# Altium integrated library Analog Devices Data Converters Digital-to-Analog Converters.IntLib: 2231 symbols (part 176 of 181)
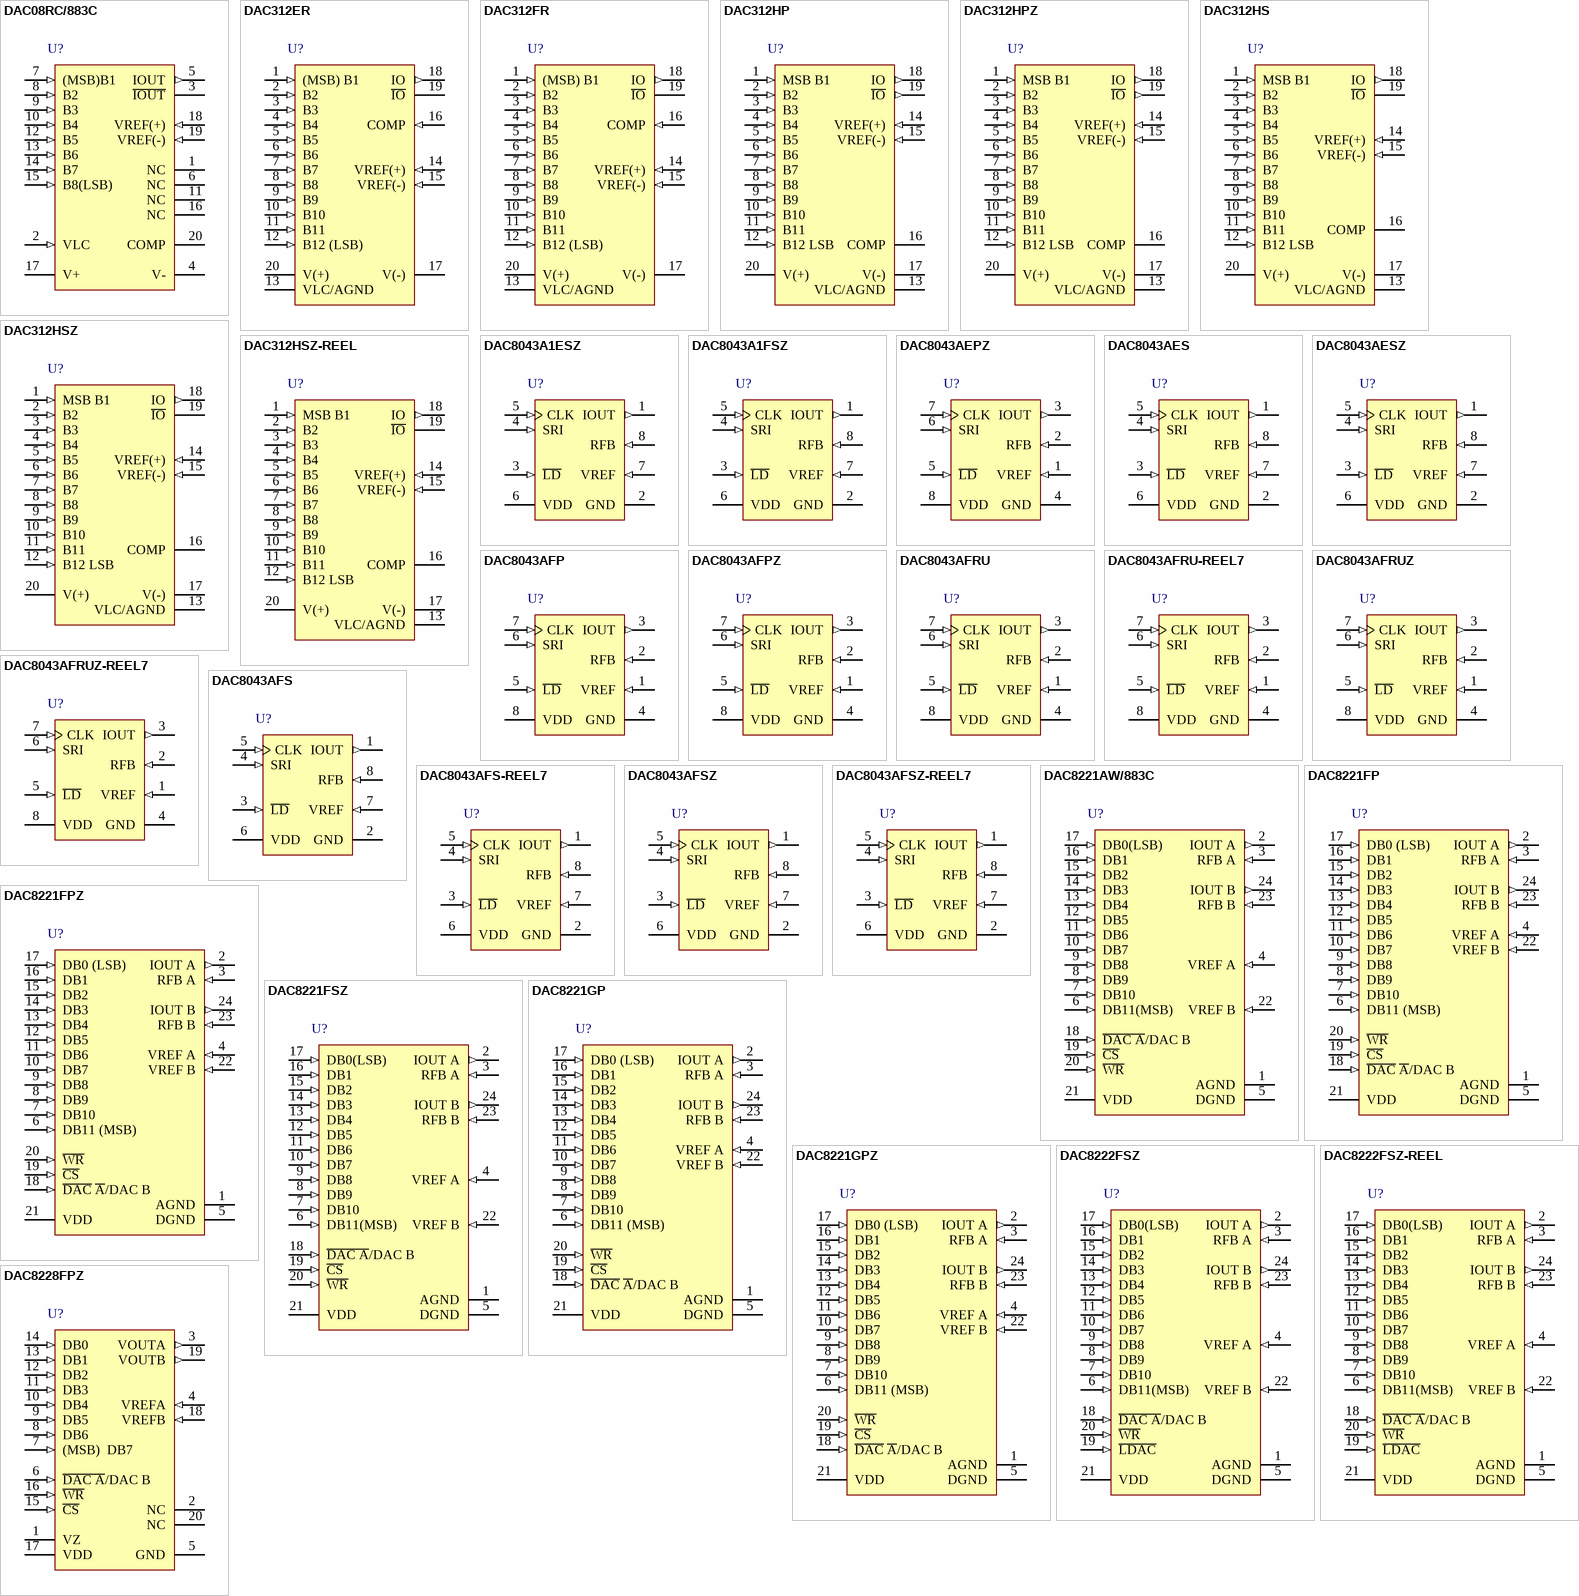
[diagram p289: symbols DAC08RC/883C to DAC8228FPZ]

## DAC312HP
designator U?
Single 12-Bit Multiplying Digital-to-Analog Converter, -40 to +85 degC, N-20, Tube; Generic Part Number: DAC312; Manufacturer: Analog Devices; PartNumber: DAC312HP; # DAC Outputs: 1; Max V+: 18V; Op Pwr Diss: 267mW; Resolution (Bits): 12; Settling Time: 250ns; Single Supply: No; DatasheetVersion: Rev.C; PackageVersion: 070706-A; PackageReference: N-20; PackageDescription: 20-Lead Plastic Dual In-Line Package [PDIP] Narrow Body; Supplier 1: Digi-Key; Supplier Part Number 1: DAC312HP-ND; Supplier 2: Mouser; Supplier Part Number 2: 584-DAC312HP; Packing: Tube; RoHS: N; Mounting Technology: Through Hole; Code_JEDEC: MS-001; ComponentLink1Description: Manufacturer URL; ComponentLink1URL: http://www.analog.com/en/index.html; ComponentLink2Description: Datasheet; ComponentLink2URL: http://www.analog.com/static/imported-files/data_sheets/DAC312.pdf; ComponentLink3Description: Package Specification; ComponentLink3URL: http://www.analog.com/static/imported-files/packages/50601349676519N_20.pdf; ComponentLink4Description: Product URL; ComponentLink4URL: http://www.analog.com/en/digital-to-analog-converters/da-converters/dac312/products/product.html
footprint N-20 (DIP, 20-Leads, Row Spacing 7.62mm, Pitch 2.54mm, Body 25.9x6.6mm)
pins: 1 MSB B1 (in), 2 B2 (in), 3 B3 (in), 4 B4 (in), 5 B5 (in), 6 B6 (in), 7 B7 (in), 8 B8 (in), 9 B9 (in), 10 B10 (in), 11 B11 (in), 12 B12 LSB (in), 13 VLC/AGND (power), 14 VREF(+) (in), 15 VREF(-) (in), 16 COMP, 17 V(-) (power), 18 IO (out), 19 ~{IO} (out), 20 V(+) (power)

## DAC312HPZ
designator U?
Single 12-Bit Multiplying Digital-to-Analog Converter, -40 to +85 degC, N-20, Pb-Free, Tube; Generic Part Number: DAC312; Manufacturer: Analog Devices; PartNumber: DAC312HPZ; # DAC Outputs: 1; Max V+: 18V; Op Pwr Diss: 267mW; Resolution (Bits): 12; Settling Time: 250ns; Single Supply: No; DatasheetVersion: Rev.C; PackageVersion: 070706-A; PackageReference: N-20; PackageDescription: 20-Lead Plastic Dual In-Line Package [PDIP] Narrow Body; Supplier 1: Digi-Key; Supplier Part Number 1: DAC312HPZ-ND; Supplier 2: Newark; Supplier Part Number 2: 14M1925; Supplier 3: Mouser; Supplier Part Number 3: 584-DAC312HPZ; Packing: Tube; RoHS: Y; Mounting Technology: Through Hole; Code_JEDEC: MS-001; ComponentLink1Description: Manufacturer URL; ComponentLink1URL: http://www.analog.com/en/index.html; ComponentLink2Description: Datasheet; ComponentLink2URL: http://www.analog.com/static/imported-files/data_sheets/DAC312.pdf; ComponentLink3Description: Package Specification; ComponentLink3URL: http://www.analog.com/static/imported-files/packages/50601349676519N_20.pdf; ComponentLink4Description: Product URL; ComponentLink4URL: http://www.analog.com/en/digital-to-analog-converters/da-converters/dac312/products/product.html
footprint N-20 (DIP, 20-Leads, Row Spacing 7.62mm, Pitch 2.54mm, Body 25.9x6.6mm)
pins: 1 MSB B1 (in), 2 B2 (in), 3 B3 (in), 4 B4 (in), 5 B5 (in), 6 B6 (in), 7 B7 (in), 8 B8 (in), 9 B9 (in), 10 B10 (in), 11 B11 (in), 12 B12 LSB (in), 13 VLC/AGND (power), 14 VREF(+) (in), 15 VREF(-) (in), 16 COMP, 17 V(-) (power), 18 IO (out), 19 ~{IO} (out), 20 V(+) (power)

## DAC312HS
designator U?
Single 12-Bit Multiplying Digital-to-Analog Converter, -40 to +85 degC, RW-20, Tube; Generic Part Number: DAC312; Manufacturer: Analog Devices; PartNumber: DAC312HS; # DAC Outputs: 1; Max V+: 18V; Op Pwr Diss: 267mW; Resolution (Bits): 12; Settling Time: 250ns; Single Supply: No; DatasheetVersion: Rev.C; PackageVersion: 060706-A; PackageReference: RW-20; PackageDescription: 20-Lead Standard Small Outline Package [SOIC_W] Wide Body; Supplier 1: Digi-Key; Supplier Part Number 1: DAC312HS-ND; Supplier 2: Mouser; Supplier Part Number 2: 584-DAC312HS; Packing: Tube; RoHS: N; Mounting Technology: Surface Mount; Code_JEDEC: MS-013-AC; ComponentLink1Description: Manufacturer URL; ComponentLink1URL: http://www.analog.com/en/index.html; ComponentLink2Description: Datasheet; ComponentLink2URL: http://www.analog.com/static/imported-files/data_sheets/DAC312.pdf; ComponentLink3Description: Package Specification; ComponentLink3URL: http://www.analog.com/static/imported-files/packages/233848RW_20.pdf; ComponentLink4Description: Product URL; ComponentLink4URL: http://www.analog.com/en/digital-to-analog-converters/da-converters/dac312/products/product.html
footprint RW-20_N (SOIC, 20-Leads, Body 12.8x7.5mm, Pitch 1.27mm, IPC Medium Density)
footprint RW-20_L (SOIC, 20-Leads, Body 12.8x7.5mm, Pitch 1.27mm, IPC High Density)
footprint RW-20_M (SOIC, 20-Leads, Body 12.8x7.5mm, Pitch 1.27mm, IPC Low Density)
pins: 1 MSB B1 (in), 2 B2 (in), 3 B3 (in), 4 B4 (in), 5 B5 (in), 6 B6 (in), 7 B7 (in), 8 B8 (in), 9 B9 (in), 10 B10 (in), 11 B11 (in), 12 B12 LSB (in), 13 VLC/AGND (power), 14 VREF(+) (in), 15 VREF(-) (in), 16 COMP, 17 V(-) (power), 18 IO (out), 19 ~{IO}, 20 V(+) (power)

## DAC312HSZ
designator U?
Single 12-Bit Multiplying Digital-to-Analog Converter, -40 to +85 degC, RW-20, Pb-Free, Tube; Generic Part Number: DAC312; Manufacturer: Analog Devices; PartNumber: DAC312HSZ; # DAC Outputs: 1; Max V+: 18V; Op Pwr Diss: 267mW; Resolution (Bits): 12; Settling Time: 250ns; Single Supply: No; DatasheetVersion: Rev.C; PackageVersion: 060706-A; PackageReference: RW-20; PackageDescription: 20-Lead Standard Small Outline Package [SOIC_W] Wide Body; Supplier 1: Digi-Key; Supplier Part Number 1: DAC312HSZ-ND; Supplier 2: Newark; Supplier Part Number 2: 59K7909; Supplier 3: Mouser; Supplier Part Number 3: 584-DAC312HSZ; Packing: Tube; RoHS: Y; Mounting Technology: Surface Mount; Code_JEDEC: MS-013-AC; ComponentLink1Description: Manufacturer URL; ComponentLink1URL: http://www.analog.com/en/index.html; ComponentLink2Description: Datasheet; ComponentLink2URL: http://www.analog.com/static/imported-files/data_sheets/DAC312.pdf; ComponentLink3Description: Package Specification; ComponentLink3URL: http://www.analog.com/static/imported-files/packages/233848RW_20.pdf; ComponentLink4Description: Product URL; ComponentLink4URL: http://www.analog.com/en/digital-to-analog-converters/da-converters/dac312/products/product.html
footprint RW-20_N (SOIC, 20-Leads, Body 12.8x7.5mm, Pitch 1.27mm, IPC Medium Density)
footprint RW-20_L (SOIC, 20-Leads, Body 12.8x7.5mm, Pitch 1.27mm, IPC High Density)
footprint RW-20_M (SOIC, 20-Leads, Body 12.8x7.5mm, Pitch 1.27mm, IPC Low Density)
pins: 1 MSB B1 (in), 2 B2 (in), 3 B3 (in), 4 B4 (in), 5 B5 (in), 6 B6 (in), 7 B7 (in), 8 B8 (in), 9 B9 (in), 10 B10 (in), 11 B11 (in), 12 B12 LSB (in), 13 VLC/AGND (power), 14 VREF(+) (in), 15 VREF(-) (in), 16 COMP, 17 V(-) (power), 18 IO (out), 19 ~{IO}, 20 V(+) (power)

## DAC312HSZ-REEL
designator U?
Single 12-Bit Multiplying Digital-to-Analog Converter, 0 to +70 degC, RW-20, Pb-Free, Reel; Generic Part Number: DAC312; Manufacturer: Analog Devices; PartNumber: DAC312HSZ-REEL; # DAC Outputs: 1; Max V+: 18V; Op Pwr Diss: 267mW; Resolution (Bits): 12; Settling Time: 250ns; Single Supply: No; DatasheetVersion: Rev.C; PackageVersion: 060706-A; PackageReference: RW-20; PackageDescription: 20-Lead Standard Small Outline Package [SOIC_W] Wide Body; Supplier 1: Digi-Key; Supplier Part Number 1: DAC312HSZ-REEL-ND; Supplier 2: Mouser; Supplier Part Number 2: 584-DAC312HSZ-R; Packing: Reel; RoHS: Y; Mounting Technology: Surface Mount; Code_JEDEC: MS-013-AC; ComponentLink1Description: Manufacturer URL; ComponentLink1URL: http://www.analog.com/en/index.html; ComponentLink2Description: Datasheet; ComponentLink2URL: http://www.analog.com/static/imported-files/data_sheets/DAC312.pdf; ComponentLink3Description: Package Specification; ComponentLink3URL: http://www.analog.com/static/imported-files/packages/233848RW_20.pdf; ComponentLink4Description: Product URL; ComponentLink4URL: http://www.analog.com/en/digital-to-analog-converters/da-converters/dac312/products/product.html
footprint RW-20_N (SOIC, 20-Leads, Body 12.8x7.5mm, Pitch 1.27mm, IPC Medium Density)
footprint RW-20_L (SOIC, 20-Leads, Body 12.8x7.5mm, Pitch 1.27mm, IPC High Density)
footprint RW-20_M (SOIC, 20-Leads, Body 12.8x7.5mm, Pitch 1.27mm, IPC Low Density)
pins: 1 MSB B1 (in), 2 B2 (in), 3 B3 (in), 4 B4 (in), 5 B5 (in), 6 B6 (in), 7 B7 (in), 8 B8 (in), 9 B9 (in), 10 B10 (in), 11 B11 (in), 12 B12 LSB (in), 13 VLC/AGND (power), 14 VREF(+) (in), 15 VREF(-) (in), 16 COMP, 17 V(-) (power), 18 IO (out), 19 ~{IO}, 20 V(+) (power)

## DAC8043A1ESZ
designator U?
Single 12-Bit Multiplying Digital-to-Analog Converter with Serial Interface, -40 to +85 degC, R-8, Pb-Free, Tube; Generic Part Number: DAC8043A; Manufacturer: Analog Devices; PartNumber: DAC8043A1ESZ; # DAC Outputs: 1; Max V+: 5.5V; Op Pwr Diss: 50µW; Resolution (Bits): 12; Settling Time: 250ns; Single Supply: Yes; DatasheetVersion: Rev.B; PackageVersion: 060506-A; PackageReference: R-8; PackageDescription: 8-Lead Standard Small Outline Package [SOIC_N] Narrow Body; Supplier 1: Digi-Key; Supplier Part Number 1: DAC8043A1ESZ-ND; Supplier 2: Mouser; Supplier Part Number 2: 584-DAC8043A1ESZ; Packing: Tube; RoHS: Y; Mounting Technology: Surface Mount; Code_JEDEC: MS-012-AA; Code_IPC: SOIC127P600-8; ComponentLink1Description: Manufacturer URL; ComponentLink1URL: http://www.analog.com/en/index.html; ComponentLink2Description: Datasheet; ComponentLink2URL: http://www.analog.com/static/imported-files/data_sheets/DAC8043A.pdf; ComponentLink3Description: Package Specification; ComponentLink3URL: http://www.analog.com/static/imported-files/packages/PKG_PDF/SOIC_Narrow%20(R)/R_8.pdf; ComponentLink4Description: Product URL; ComponentLink4URL: http://www.analog.com/en/digital-to-analog-converters/da-converters/dac8043a/products/product.html
footprint R-8_N (SOIC, 8-Leads, Body 4.9x3.9mm, Pitch 1.27mm, IPC Medium Density)
footprint R-8_L (SOIC, 8-Leads, Body 4.9x3.9mm, Pitch 1.27mm, IPC High Density)
footprint R-8_M (SOIC, 8-Leads, Body 4.9x3.9mm, Pitch 1.27mm, IPC Low Density)
pins: 1 IOUT (out) "DAC Current Output, full-scale output 1 LSB less than reference input voltage -VREF.", 2 GND (power) "Analog and Digital Ground.", 3 ~{LD} (in) "Load Strobe, Level-Sensitive Digital Input.Transfers shift-register data to DAC register while active low. See truth table for operation.", 4 SRI (in) "12-Bit Serial Register Input, data loads directly into the shift register MSB first. Extra leading bits are ignored.", 5 CLK (in) "Clock Input, positive-edge clocks data into shift register.", 6 VDD (power) "Positive Power Supply Input. Specified range of operation 5V +/- 10%.", 7 VREF (in) "DAC Reference Input Pin. Establishes DAC fullscale voltage. Constant input resistance versus code.", 8 RFB (in) "Internal Matching Feedback Resistor. Connect to external op amp output."

## DAC8043A1FSZ
designator U?
Single 12-Bit Multiplying Digital-to-Analog Converter with Serial Interface, -40 to +85 degC, R-8, Pb-Free, Tube; Generic Part Number: DAC8043A; Manufacturer: Analog Devices; PartNumber: DAC8043A1FSZ; # DAC Outputs: 1; Max V+: 5.5V; Op Pwr Diss: 50µW; Resolution (Bits): 12; Settling Time: 250ns; Single Supply: Yes; DatasheetVersion: Rev.B; PackageVersion: 060506-A; PackageReference: R-8; PackageDescription: 8-Lead Standard Small Outline Package [SOIC_N] Narrow Body; Supplier 1: Digi-Key; Supplier Part Number 1: DAC8043A1FSZ-ND; Supplier 2: Mouser; Supplier Part Number 2: 584-DAC8043A1FSZ; Packing: Tube; RoHS: Y; Mounting Technology: Surface Mount; Code_JEDEC: MS-012-AA; Code_IPC: SOIC127P600-8; ComponentLink1Description: Manufacturer URL; ComponentLink1URL: http://www.analog.com/en/index.html; ComponentLink2Description: Datasheet; ComponentLink2URL: http://www.analog.com/static/imported-files/data_sheets/DAC8043A.pdf; ComponentLink3Description: Package Specification; ComponentLink3URL: http://www.analog.com/static/imported-files/packages/PKG_PDF/SOIC_Narrow%20(R)/R_8.pdf; ComponentLink4Description: Product URL; ComponentLink4URL: http://www.analog.com/en/digital-to-analog-converters/da-converters/dac8043a/products/product.html
footprint R-8_N (SOIC, 8-Leads, Body 4.9x3.9mm, Pitch 1.27mm, IPC Medium Density)
footprint R-8_L (SOIC, 8-Leads, Body 4.9x3.9mm, Pitch 1.27mm, IPC High Density)
footprint R-8_M (SOIC, 8-Leads, Body 4.9x3.9mm, Pitch 1.27mm, IPC Low Density)
pins: 1 IOUT (out) "DAC Current Output, full-scale output 1 LSB less than reference input voltage -VREF.", 2 GND (power) "Analog and Digital Ground.", 3 ~{LD} (in) "Load Strobe, Level-Sensitive Digital Input.Transfers shift-register data to DAC register while active low. See truth table for operation.", 4 SRI (in) "12-Bit Serial Register Input, data loads directly into the shift register MSB first. Extra leading bits are ignored.", 5 CLK (in) "Clock Input, positive-edge clocks data into shift register.", 6 VDD (power) "Positive Power Supply Input. Specified range of operation 5V +/- 10%.", 7 VREF (in) "DAC Reference Input Pin. Establishes DAC fullscale voltage. Constant input resistance versus code.", 8 RFB (in) "Internal Matching Feedback Resistor. Connect to external op amp output."

## DAC8043AEPZ
designator U?
Single 12-Bit Multiplying Digital-to-Analog Converter with Serial Interface, -40 to +85 degC, N-8, Pb-Free, Tube; Generic Part Number: DAC8043A; Manufacturer: Analog Devices; PartNumber: DAC8043AEPZ; # DAC Outputs: 1; Max V+: 5.5V; Op Pwr Diss: 50µW; Resolution (Bits): 12; Settling Time: 250ns; Single Supply: Yes; DatasheetVersion: Rev.B; PackageVersion: 070606-A; PackageReference: N-8; PackageDescription: 8-Lead Plastic Dual In-Line Package [PDIP] Narrow Body; Supplier 1: Digi-Key; Supplier Part Number 1: DAC8043AEPZ-ND; Supplier 2: Mouser; Supplier Part Number 2: 584-DAC8043AEPZ; Packing: Tube; RoHS: Y; Mounting Technology: Through Hole; Code_JEDEC: MS-001; ComponentLink1Description: Manufacturer URL; ComponentLink1URL: http://www.analog.com/en/index.html; ComponentLink2Description: Datasheet; ComponentLink2URL: http://www.analog.com/static/imported-files/data_sheets/DAC8043A.pdf; ComponentLink3Description: Package Specification; ComponentLink3URL: http://www.analog.com/static/imported-files/packages/PKG_PDF/PDIP(N)/N_8.pdf; ComponentLink4Description: Product URL; ComponentLink4URL: http://www.analog.com/en/digital-to-analog-converters/da-converters/dac8043a/products/product.html
footprint N-8 (DIP, 8-Leads, Row Spacing 7.62mm, Pitch 2.54mm, Body 9.6x6.6mm)
pins: 1 VREF (in) "DAC Reference Input Pin. Establishes DAC fullscale voltage. Constant input resistance versus code.", 2 RFB (in) "Internal Matching Feedback Resistor. Connect to external op amp output.", 3 IOUT (out) "DAC Current Output, full-scale output 1 LSB less than reference input voltage -VREF.", 4 GND (power) "Analog and Digital Ground.", 5 ~{LD} (in) "Load Strobe, Level-Sensitive Digital Input.Transfers shift-register data to DAC register while active low. See truth table for operation.", 6 SRI (in) "12-Bit Serial Register Input, data loads directly into the shift register MSB first. Extra leading bits are ignored.", 7 CLK (in) "Clock Input, positive-edge clocks data into shift register.", 8 VDD (power) "Positive Power Supply Input. Specified range of operation 5 V +/- 10%."

## DAC8043AES
designator U?
Single 12-Bit Multiplying Digital-to-Analog Converter with Serial Interface, -40 to +85 degC, R-8, Tube; Generic Part Number: DAC8043A; Manufacturer: Analog Devices; PartNumber: DAC8043AES; # DAC Outputs: 1; Max V+: 5.5V; Op Pwr Diss: 50µW; Resolution (Bits): 12; Settling Time: 250ns; Single Supply: Yes; DatasheetVersion: Rev.B; PackageVersion: 060506-A; PackageReference: R-8; PackageDescription: 8-Lead Standard Small Outline Package [SOIC_N] Narrow Body; Supplier 1: Digi-Key; Supplier Part Number 1: DAC8043AES-ND; Supplier 2: Mouser; Supplier Part Number 2: 584-DAC8043AES; Packing: Tube; RoHS: N; Mounting Technology: Surface Mount; Code_JEDEC: MS-012-AA; Code_IPC: SOIC127P600-8; ComponentLink1Description: Manufacturer URL; ComponentLink1URL: http://www.analog.com/en/index.html; ComponentLink2Description: Datasheet; ComponentLink2URL: http://www.analog.com/static/imported-files/data_sheets/DAC8043A.pdf; ComponentLink3Description: Package Specification; ComponentLink3URL: http://www.analog.com/static/imported-files/packages/PKG_PDF/SOIC_Narrow%20(R)/R_8.pdf; ComponentLink4Description: Product URL; ComponentLink4URL: http://www.analog.com/en/digital-to-analog-converters/da-converters/dac8043a/products/product.html
footprint R-8_N (SOIC, 8-Leads, Body 4.9x3.9mm, Pitch 1.27mm, IPC Medium Density)
footprint R-8_L (SOIC, 8-Leads, Body 4.9x3.9mm, Pitch 1.27mm, IPC High Density)
footprint R-8_M (SOIC, 8-Leads, Body 4.9x3.9mm, Pitch 1.27mm, IPC Low Density)
pins: 1 IOUT (out) "DAC Current Output, full-scale output 1 LSB less than reference input voltage -VREF.", 2 GND (power) "Analog and Digital Ground.", 3 ~{LD} (in) "Load Strobe, Level-Sensitive Digital Input.Transfers shift-register data to DAC register while active low. See truth table for operation.", 4 SRI (in) "12-Bit Serial Register Input, data loads directly into the shift register MSB first. Extra leading bits are ignored.", 5 CLK (in) "Clock Input, positive-edge clocks data into shift register.", 6 VDD (power) "Positive Power Supply Input. Specified range of operation 5V +/- 10%.", 7 VREF (in) "DAC Reference Input Pin. Establishes DAC fullscale voltage. Constant input resistance versus code.", 8 RFB (in) "Internal Matching Feedback Resistor. Connect to external op amp output."

## DAC8043AESZ
designator U?
Single 12-Bit Multiplying Digital-to-Analog Converter with Serial Interface, -40 to +85 degC, R-8, Pb-Free, Tube; Generic Part Number: DAC8043A; Manufacturer: Analog Devices; PartNumber: DAC8043AESZ; # DAC Outputs: 1; Max V+: 5.5V; Op Pwr Diss: 50µW; Resolution (Bits): 12; Settling Time: 250ns; Single Supply: Yes; DatasheetVersion: Rev.B; PackageVersion: 060506-A; PackageReference: R-8; PackageDescription: 8-Lead Standard Small Outline Package [SOIC_N] Narrow Body; Supplier 1: Digi-Key; Supplier Part Number 1: DAC8043AESZ-ND; Supplier 2: Newark; Supplier Part Number 2: 59K7912; Supplier 3: Mouser; Supplier Part Number 3: 584-DAC8043AESZ; Packing: Tube; RoHS: Y; Mounting Technology: Surface Mount; Code_JEDEC: MS-012-AA; Code_IPC: SOIC127P600-8; ComponentLink1Description: Manufacturer URL; ComponentLink1URL: http://www.analog.com/en/index.html; ComponentLink2Description: Datasheet; ComponentLink2URL: http://www.analog.com/static/imported-files/data_sheets/DAC8043A.pdf; ComponentLink3Description: Package Specification; ComponentLink3URL: http://www.analog.com/static/imported-files/packages/PKG_PDF/SOIC_Narrow%20(R)/R_8.pdf; ComponentLink4Description: Product URL; ComponentLink4URL: http://www.analog.com/en/digital-to-analog-converters/da-converters/dac8043a/products/product.html
footprint R-8_N (SOIC, 8-Leads, Body 4.9x3.9mm, Pitch 1.27mm, IPC Medium Density)
footprint R-8_L (SOIC, 8-Leads, Body 4.9x3.9mm, Pitch 1.27mm, IPC High Density)
footprint R-8_M (SOIC, 8-Leads, Body 4.9x3.9mm, Pitch 1.27mm, IPC Low Density)
pins: 1 IOUT (out) "DAC Current Output, full-scale output 1 LSB less than reference input voltage -VREF.", 2 GND (power) "Analog and Digital Ground.", 3 ~{LD} (in) "Load Strobe, Level-Sensitive Digital Input.Transfers shift-register data to DAC register while active low. See truth table for operation.", 4 SRI (in) "12-Bit Serial Register Input, data loads directly into the shift register MSB first. Extra leading bits are ignored.", 5 CLK (in) "Clock Input, positive-edge clocks data into shift register.", 6 VDD (power) "Positive Power Supply Input. Specified range of operation 5V +/- 10%.", 7 VREF (in) "DAC Reference Input Pin. Establishes DAC fullscale voltage. Constant input resistance versus code.", 8 RFB (in) "Internal Matching Feedback Resistor. Connect to external op amp output."

## DAC8043AFP
designator U?
Single 12-Bit Multiplying Digital-to-Analog Converter with Serial Interface, -40 to +85 degC, N-8, Tube; Generic Part Number: DAC8043A; Manufacturer: Analog Devices; PartNumber: DAC8043AFP; # DAC Outputs: 1; Max V+: 5.5V; Op Pwr Diss: 50µW; Resolution (Bits): 12; Settling Time: 250ns; Single Supply: Yes; DatasheetVersion: Rev.B; PackageVersion: 070606-A; PackageReference: N-8; PackageDescription: 8-Lead Plastic Dual In-Line Package [PDIP] Narrow Body; Supplier 1: Digi-Key; Supplier Part Number 1: DAC8043AFP-ND; Supplier 2: Mouser; Supplier Part Number 2: 584-DAC8043AFP; Packing: Tube; RoHS: N; Mounting Technology: Through Hole; Code_JEDEC: MS-001; ComponentLink1Description: Manufacturer URL; ComponentLink1URL: http://www.analog.com/en/index.html; ComponentLink2Description: Datasheet; ComponentLink2URL: http://www.analog.com/static/imported-files/data_sheets/DAC8043A.pdf; ComponentLink3Description: Package Specification; ComponentLink3URL: http://www.analog.com/static/imported-files/packages/PKG_PDF/PDIP(N)/N_8.pdf; ComponentLink4Description: Product URL; ComponentLink4URL: http://www.analog.com/en/digital-to-analog-converters/da-converters/dac8043a/products/product.html
footprint N-8 (DIP, 8-Leads, Row Spacing 7.62mm, Pitch 2.54mm, Body 9.6x6.6mm)
pins: 1 VREF (in) "DAC Reference Input Pin. Establishes DAC fullscale voltage. Constant input resistance versus code.", 2 RFB (in) "Internal Matching Feedback Resistor. Connect to external op amp output.", 3 IOUT (out) "DAC Current Output, full-scale output 1 LSB less than reference input voltage -VREF.", 4 GND (power) "Analog and Digital Ground.", 5 ~{LD} (in) "Load Strobe, Level-Sensitive Digital Input.Transfers shift-register data to DAC register while active low. See truth table for operation.", 6 SRI (in) "12-Bit Serial Register Input, data loads directly into the shift register MSB first. Extra leading bits are ignored.", 7 CLK (in) "Clock Input, positive-edge clocks data into shift register.", 8 VDD (power) "Positive Power Supply Input. Specified range of operation 5 V +/- 10%."

## DAC8043AFPZ
designator U?
Single 12-Bit Multiplying Digital-to-Analog Converter with Serial Interface, -40 to +85 degC, N-8, Pb-Free, Tube; Generic Part Number: DAC8043A; Manufacturer: Analog Devices; PartNumber: DAC8043AFPZ; # DAC Outputs: 1; Max V+: 5.5V; Op Pwr Diss: 50µW; Resolution (Bits): 12; Settling Time: 250ns; Single Supply: Yes; DatasheetVersion: Rev.B; PackageVersion: 070606-A; PackageReference: N-8; PackageDescription: 8-Lead Plastic Dual In-Line Package [PDIP] Narrow Body; Supplier 1: Digi-Key; Supplier Part Number 1: DAC8043AFPZ-ND; Supplier 2: Farnell; Supplier Part Number 2: 1438737; Supplier 3: Newark; Supplier Part Number 3: 59K7913; Supplier 4: Mouser; Supplier Part Number 4: 584-DAC8043AFPZ; Packing: Tube; RoHS: Y; Mounting Technology: Through Hole; Code_JEDEC: MS-001; ComponentLink1Description: Manufacturer URL; ComponentLink1URL: http://www.analog.com/en/index.html; ComponentLink2Description: Datasheet; ComponentLink2URL: http://www.analog.com/static/imported-files/data_sheets/DAC8043A.pdf; ComponentLink3Description: Package Specification; ComponentLink3URL: http://www.analog.com/static/imported-files/packages/PKG_PDF/PDIP(N)/N_8.pdf; ComponentLink4Description: Product URL; ComponentLink4URL: http://www.analog.com/en/digital-to-analog-converters/da-converters/dac8043a/products/product.html
footprint N-8 (DIP, 8-Leads, Row Spacing 7.62mm, Pitch 2.54mm, Body 9.6x6.6mm)
pins: 1 VREF (in) "DAC Reference Input Pin. Establishes DAC fullscale voltage. Constant input resistance versus code.", 2 RFB (in) "Internal Matching Feedback Resistor. Connect to external op amp output.", 3 IOUT (out) "DAC Current Output, full-scale output 1 LSB less than reference input voltage -VREF.", 4 GND (power) "Analog and Digital Ground.", 5 ~{LD} (in) "Load Strobe, Level-Sensitive Digital Input.Transfers shift-register data to DAC register while active low. See truth table for operation.", 6 SRI (in) "12-Bit Serial Register Input, data loads directly into the shift register MSB first. Extra leading bits are ignored.", 7 CLK (in) "Clock Input, positive-edge clocks data into shift register.", 8 VDD (power) "Positive Power Supply Input. Specified range of operation 5 V +/- 10%."

## DAC8043AFRU
designator U?
Single 12-Bit Multiplying Digital-to-Analog Converter with Serial Interface, -40 to +85 degC, RU-8, Tube; Generic Part Number: DAC8043A; Manufacturer: Analog Devices; PartNumber: DAC8043AFRU; # DAC Outputs: 1; Max V+: 5.5V; Op Pwr Diss: 50µW; Resolution (Bits): 12; Settling Time: 250ns; Single Supply: Yes; DatasheetVersion: Rev.B; PackageVersion: 1997; PackageReference: RU-8; PackageDescription: 8-Pin Thin Small Outline Package 0.65 mm Pitch; Supplier 1: Digi-Key; Supplier Part Number 1: DAC8043AFRU-ND; Supplier 2: Mouser; Supplier Part Number 2: 584-DAC8043AFRU; Packing: Tube; RoHS: N; Mounting Technology: Surface Mount; ComponentLink1Description: Manufacturer URL; ComponentLink1URL: http://www.analog.com/en/index.html; ComponentLink2Description: Datasheet; ComponentLink2URL: http://www.analog.com/static/imported-files/data_sheets/DAC8043A.pdf; ComponentLink3Description: Package Specification; ComponentLink3URL: http://www.analog.com/static/imported-files/packages/359224089841708504863856053953356548880RU08.pdf; ComponentLink4Description: Product URL; ComponentLink4URL: http://www.analog.com/en/digital-to-analog-converters/da-converters/dac8043a/products/product.html
footprint RU-8_N (TSOP, 8-Leads, Body 3x4.4mm, Pitch 0.65mm, IPC Medium Density)
footprint RU-8_L (TSOP, 8-Leads, Body 3x4.4mm, Pitch 0.65mm, IPC High Density)
footprint RU-8_M (TSOP, 8-Leads, Body 3x4.4mm, Pitch 0.65mm, IPC Low Density)
pins: 1 VREF (in) "DAC Reference Input Pin. Establishes DAC fullscale voltage. Constant input resistance versus code.", 2 RFB (in) "Internal Matching Feedback Resistor. Connect to external op amp output.", 3 IOUT (out) "DAC Current Output, full-scale output 1 LSB less than reference input voltage -VREF.", 4 GND (power) "Resets DAC register to zero condition.Active low input.", 5 ~{LD} (in) "Load Strobe, Level-Sensitive Digital Input.Transfers shift-register data to DAC register while active low. See truth table for operation.", 6 SRI (in) "12-Bit Serial Register Input, data loads directly into the shift register MSB first. Extra leading bits are ignored.", 7 CLK (in) "Clock Input, positive-edge clocks data into shift register.", 8 VDD (power) "Positive Power Supply Input. Specified range of operation 5 V +/- 10%."

## DAC8043AFRU-REEL7
designator U?
Single 12-Bit Multiplying Digital-to-Analog Converter with Serial Interface, -40 to +85 degC, RU-8, Reel; Generic Part Number: DAC8043A; Manufacturer: Analog Devices; PartNumber: DAC8043AFRU-REEL7; # DAC Outputs: 1; Max V+: 5.5V; Op Pwr Diss: 50µW; Resolution (Bits): 12; Settling Time: 250ns; Single Supply: Yes; DatasheetVersion: Rev.B; PackageVersion: 1997; PackageReference: RU-8; PackageDescription: 8-Pin Thin Small Outline Package 0.65 mm Pitch; Supplier 1: Digi-Key; Supplier Part Number 1: DAC8043AFRU-REEL7-ND; Supplier 2: Mouser; Supplier Part Number 2: 584-DAC8043AFRUR7; Packing: Reel; RoHS: N; Mounting Technology: Surface Mount; ComponentLink1Description: Manufacturer URL; ComponentLink1URL: http://www.analog.com/en/index.html; ComponentLink2Description: Datasheet; ComponentLink2URL: http://www.analog.com/static/imported-files/data_sheets/DAC8043A.pdf; ComponentLink3Description: Package Specification; ComponentLink3URL: http://www.analog.com/static/imported-files/packages/359224089841708504863856053953356548880RU08.pdf; ComponentLink4Description: Product URL; ComponentLink4URL: http://www.analog.com/en/digital-to-analog-converters/da-converters/dac8043a/products/product.html
footprint RU-8_N (TSOP, 8-Leads, Body 3x4.4mm, Pitch 0.65mm, IPC Medium Density)
footprint RU-8_L (TSOP, 8-Leads, Body 3x4.4mm, Pitch 0.65mm, IPC High Density)
footprint RU-8_M (TSOP, 8-Leads, Body 3x4.4mm, Pitch 0.65mm, IPC Low Density)
pins: 1 VREF (in) "DAC Reference Input Pin. Establishes DAC fullscale voltage. Constant input resistance versus code.", 2 RFB (in) "Internal Matching Feedback Resistor. Connect to external op amp output.", 3 IOUT (out) "DAC Current Output, full-scale output 1 LSB less than reference input voltage -VREF.", 4 GND (power) "Resets DAC register to zero condition.Active low input.", 5 ~{LD} (in) "Load Strobe, Level-Sensitive Digital Input.Transfers shift-register data to DAC register while active low. See truth table for operation.", 6 SRI (in) "12-Bit Serial Register Input, data loads directly into the shift register MSB first. Extra leading bits are ignored.", 7 CLK (in) "Clock Input, positive-edge clocks data into shift register.", 8 VDD (power) "Positive Power Supply Input. Specified range of operation 5 V +/- 10%."

## DAC8043AFRUZ
designator U?
Single 12-Bit Multiplying Digital-to-Analog Converter with Serial Interface, -40 to +85 degC, RU-8, Pb-Free, Tube; Generic Part Number: DAC8043A; Manufacturer: Analog Devices; PartNumber: DAC8043AFRUZ; # DAC Outputs: 1; Max V+: 5.5V; Op Pwr Diss: 50µW; Resolution (Bits): 12; Settling Time: 250ns; Single Supply: Yes; DatasheetVersion: Rev.B; PackageVersion: 1997; PackageReference: RU-8; PackageDescription: 8-Pin Thin Small Outline Package 0.65 mm Pitch; Supplier 1: Digi-Key; Supplier Part Number 1: DAC8043AFRUZ-ND; Supplier 2: Newark; Supplier Part Number 2: 59K7914; Supplier 3: Mouser; Supplier Part Number 3: 584-DAC8043AFRUZ; Packing: Tube; RoHS: Y; Mounting Technology: Surface Mount; ComponentLink1Description: Manufacturer URL; ComponentLink1URL: http://www.analog.com/en/index.html; ComponentLink2Description: Datasheet; ComponentLink2URL: http://www.analog.com/static/imported-files/data_sheets/DAC8043A.pdf; ComponentLink3Description: Package Specification; ComponentLink3URL: http://www.analog.com/static/imported-files/packages/359224089841708504863856053953356548880RU08.pdf; ComponentLink4Description: Product URL; ComponentLink4URL: http://www.analog.com/en/digital-to-analog-converters/da-converters/dac8043a/products/product.html
footprint RU-8_N (TSOP, 8-Leads, Body 3x4.4mm, Pitch 0.65mm, IPC Medium Density)
footprint RU-8_L (TSOP, 8-Leads, Body 3x4.4mm, Pitch 0.65mm, IPC High Density)
footprint RU-8_M (TSOP, 8-Leads, Body 3x4.4mm, Pitch 0.65mm, IPC Low Density)
pins: 1 VREF (in) "DAC Reference Input Pin. Establishes DAC fullscale voltage. Constant input resistance versus code.", 2 RFB (in) "Internal Matching Feedback Resistor. Connect to external op amp output.", 3 IOUT (out) "DAC Current Output, full-scale output 1 LSB less than reference input voltage -VREF.", 4 GND (power) "Resets DAC register to zero condition.Active low input.", 5 ~{LD} (in) "Load Strobe, Level-Sensitive Digital Input.Transfers shift-register data to DAC register while active low. See truth table for operation.", 6 SRI (in) "12-Bit Serial Register Input, data loads directly into the shift register MSB first. Extra leading bits are ignored.", 7 CLK (in) "Clock Input, positive-edge clocks data into shift register.", 8 VDD (power) "Positive Power Supply Input. Specified range of operation 5 V +/- 10%."

## DAC8043AFRUZ-REEL7
designator U?
Single 12-Bit Multiplying Digital-to-Analog Converter with Serial Interface, -40 to +85 degC, RU-8, Pb-Free, Reel; Generic Part Number: DAC8043A; Manufacturer: Analog Devices; PartNumber: DAC8043AFRUZ-REEL7; # DAC Outputs: 1; Max V+: 5.5V; Op Pwr Diss: 50µW; Resolution (Bits): 12; Settling Time: 250ns; Single Supply: Yes; DatasheetVersion: Rev.B; PackageVersion: 1997; PackageReference: RU-8; PackageDescription: 8-Pin Thin Small Outline Package 0.65 mm Pitch; Supplier 1: Digi-Key; Supplier Part Number 1: DAC8043AFRUZ-REEL7-ND; Supplier 2: Newark; Supplier Part Number 2: 59K7915; Supplier 3: Mouser; Supplier Part Number 3: 584-DAC8043AFRUZR7; Packing: Reel; RoHS: Y; Mounting Technology: Surface Mount; ComponentLink1Description: Manufacturer URL; ComponentLink1URL: http://www.analog.com/en/index.html; ComponentLink2Description: Datasheet; ComponentLink2URL: http://www.analog.com/static/imported-files/data_sheets/DAC8043A.pdf; ComponentLink3Description: Package Specification; ComponentLink3URL: http://www.analog.com/static/imported-files/packages/359224089841708504863856053953356548880RU08.pdf; ComponentLink4Description: Product URL; ComponentLink4URL: http://www.analog.com/en/digital-to-analog-converters/da-converters/dac8043a/products/product.html
footprint RU-8_N (TSOP, 8-Leads, Body 3x4.4mm, Pitch 0.65mm, IPC Medium Density)
footprint RU-8_L (TSOP, 8-Leads, Body 3x4.4mm, Pitch 0.65mm, IPC High Density)
footprint RU-8_M (TSOP, 8-Leads, Body 3x4.4mm, Pitch 0.65mm, IPC Low Density)
pins: 1 VREF (in) "DAC Reference Input Pin. Establishes DAC fullscale voltage. Constant input resistance versus code.", 2 RFB (in) "Internal Matching Feedback Resistor. Connect to external op amp output.", 3 IOUT (out) "DAC Current Output, full-scale output 1 LSB less than reference input voltage -VREF.", 4 GND (power) "Resets DAC register to zero condition.Active low input.", 5 ~{LD} (in) "Load Strobe, Level-Sensitive Digital Input.Transfers shift-register data to DAC register while active low. See truth table for operation.", 6 SRI (in) "12-Bit Serial Register Input, data loads directly into the shift register MSB first. Extra leading bits are ignored.", 7 CLK (in) "Clock Input, positive-edge clocks data into shift register.", 8 VDD (power) "Positive Power Supply Input. Specified range of operation 5 V +/- 10%."

## DAC8043AFS
designator U?
Single 12-Bit Multiplying Digital-to-Analog Converter with Serial Interface, -40 to +85 degC, R-8, Tube; Generic Part Number: DAC8043A; Manufacturer: Analog Devices; PartNumber: DAC8043AFS; # DAC Outputs: 1; Max V+: 5.5V; Op Pwr Diss: 50µW; Resolution (Bits): 12; Settling Time: 250ns; Single Supply: Yes; DatasheetVersion: Rev.B; PackageVersion: 060506-A; PackageReference: R-8; PackageDescription: 8-Lead Standard Small Outline Package [SOIC_N] Narrow Body; Supplier 1: Digi-Key; Supplier Part Number 1: DAC8043AFS-ND; Supplier 2: Mouser; Supplier Part Number 2: 584-DAC8043AFS; Packing: Tube; RoHS: N; Mounting Technology: Surface Mount; Code_JEDEC: MS-012-AA; Code_IPC: SOIC127P600-8; ComponentLink1Description: Manufacturer URL; ComponentLink1URL: http://www.analog.com/en/index.html; ComponentLink2Description: Datasheet; ComponentLink2URL: http://www.analog.com/static/imported-files/data_sheets/DAC8043A.pdf; ComponentLink3Description: Package Specification; ComponentLink3URL: http://www.analog.com/static/imported-files/packages/PKG_PDF/SOIC_Narrow%20(R)/R_8.pdf; ComponentLink4Description: Product URL; ComponentLink4URL: http://www.analog.com/en/digital-to-analog-converters/da-converters/dac8043a/products/product.html
footprint R-8_N (SOIC, 8-Leads, Body 4.9x3.9mm, Pitch 1.27mm, IPC Medium Density)
footprint R-8_L (SOIC, 8-Leads, Body 4.9x3.9mm, Pitch 1.27mm, IPC High Density)
footprint R-8_M (SOIC, 8-Leads, Body 4.9x3.9mm, Pitch 1.27mm, IPC Low Density)
pins: 1 IOUT (out) "DAC Current Output, full-scale output 1 LSB less than reference input voltage -VREF.", 2 GND (power) "Analog and Digital Ground.", 3 ~{LD} (in) "Load Strobe, Level-Sensitive Digital Input.Transfers shift-register data to DAC register while active low. See truth table for operation.", 4 SRI (in) "12-Bit Serial Register Input, data loads directly into the shift register MSB first. Extra leading bits are ignored.", 5 CLK (in) "Clock Input, positive-edge clocks data into shift register.", 6 VDD (power) "Positive Power Supply Input. Specified range of operation 5V +/- 10%.", 7 VREF (in) "DAC Reference Input Pin. Establishes DAC fullscale voltage. Constant input resistance versus code.", 8 RFB (in) "Internal Matching Feedback Resistor. Connect to external op amp output."

## DAC8043AFS-REEL7
designator U?
Single 12-Bit Multiplying Digital-to-Analog Converter with Serial Interface, -40 to +85 degC, R-8, Reel; Generic Part Number: DAC8043A; Manufacturer: Analog Devices; PartNumber: DAC8043AFS-REEL7; # DAC Outputs: 1; Max V+: 5.5V; Op Pwr Diss: 50µW; Resolution (Bits): 12; Settling Time: 250ns; Single Supply: Yes; DatasheetVersion: Rev.B; PackageVersion: 060506-A; PackageReference: R-8; PackageDescription: 8-Lead Standard Small Outline Package [SOIC_N] Narrow Body; Supplier 1: Digi-Key; Supplier Part Number 1: DAC8043AFS-REEL7-ND; Supplier 2: Mouser; Supplier Part Number 2: 584-DAC8043AFS-R7; Packing: Reel; RoHS: N; Mounting Technology: Surface Mount; Code_JEDEC: MS-012-AA; Code_IPC: SOIC127P600-8; ComponentLink1Description: Manufacturer URL; ComponentLink1URL: http://www.analog.com/en/index.html; ComponentLink2Description: Datasheet; ComponentLink2URL: http://www.analog.com/static/imported-files/data_sheets/DAC8043A.pdf; ComponentLink3Description: Package Specification; ComponentLink3URL: http://www.analog.com/static/imported-files/packages/PKG_PDF/SOIC_Narrow%20(R)/R_8.pdf; ComponentLink4Description: Product URL; ComponentLink4URL: http://www.analog.com/en/digital-to-analog-converters/da-converters/dac8043a/products/product.html
footprint R-8_N (SOIC, 8-Leads, Body 4.9x3.9mm, Pitch 1.27mm, IPC Medium Density)
footprint R-8_L (SOIC, 8-Leads, Body 4.9x3.9mm, Pitch 1.27mm, IPC High Density)
footprint R-8_M (SOIC, 8-Leads, Body 4.9x3.9mm, Pitch 1.27mm, IPC Low Density)
pins: 1 IOUT (out) "DAC Current Output, full-scale output 1 LSB less than reference input voltage -VREF.", 2 GND (power) "Analog and Digital Ground.", 3 ~{LD} (in) "Load Strobe, Level-Sensitive Digital Input.Transfers shift-register data to DAC register while active low. See truth table for operation.", 4 SRI (in) "12-Bit Serial Register Input, data loads directly into the shift register MSB first. Extra leading bits are ignored.", 5 CLK (in) "Clock Input, positive-edge clocks data into shift register.", 6 VDD (power) "Positive Power Supply Input. Specified range of operation 5V +/- 10%.", 7 VREF (in) "DAC Reference Input Pin. Establishes DAC fullscale voltage. Constant input resistance versus code.", 8 RFB (in) "Internal Matching Feedback Resistor. Connect to external op amp output."

## DAC8043AFSZ
designator U?
Single 12-Bit Multiplying Digital-to-Analog Converter with Serial Interface, -40 to +85 degC, R-8, Pb-Free, Tube; Generic Part Number: DAC8043A; Manufacturer: Analog Devices; PartNumber: DAC8043AFSZ; # DAC Outputs: 1; Max V+: 5.5V; Op Pwr Diss: 50µW; Resolution (Bits): 12; Settling Time: 250ns; Single Supply: Yes; DatasheetVersion: Rev.B; PackageVersion: 060506-A; PackageReference: R-8; PackageDescription: 8-Lead Standard Small Outline Package [SOIC_N] Narrow Body; Supplier 1: Digi-Key; Supplier Part Number 1: DAC8043AFSZ-ND; Supplier 2: Newark; Supplier Part Number 2: 59K7916; Supplier 3: Mouser; Supplier Part Number 3: 584-DAC8043AFSZ; Packing: Tube; RoHS: Y; Mounting Technology: Surface Mount; Code_JEDEC: MS-012-AA; Code_IPC: SOIC127P600-8; ComponentLink1Description: Manufacturer URL; ComponentLink1URL: http://www.analog.com/en/index.html; ComponentLink2Description: Datasheet; ComponentLink2URL: http://www.analog.com/static/imported-files/data_sheets/DAC8043A.pdf; ComponentLink3Description: Package Specification; ComponentLink3URL: http://www.analog.com/static/imported-files/packages/PKG_PDF/SOIC_Narrow%20(R)/R_8.pdf; ComponentLink4Description: Product URL; ComponentLink4URL: http://www.analog.com/en/digital-to-analog-converters/da-converters/dac8043a/products/product.html
footprint R-8_N (SOIC, 8-Leads, Body 4.9x3.9mm, Pitch 1.27mm, IPC Medium Density)
footprint R-8_L (SOIC, 8-Leads, Body 4.9x3.9mm, Pitch 1.27mm, IPC High Density)
footprint R-8_M (SOIC, 8-Leads, Body 4.9x3.9mm, Pitch 1.27mm, IPC Low Density)
pins: 1 IOUT (out) "DAC Current Output, full-scale output 1 LSB less than reference input voltage -VREF.", 2 GND (power) "Analog and Digital Ground.", 3 ~{LD} (in) "Load Strobe, Level-Sensitive Digital Input.Transfers shift-register data to DAC register while active low. See truth table for operation.", 4 SRI (in) "12-Bit Serial Register Input, data loads directly into the shift register MSB first. Extra leading bits are ignored.", 5 CLK (in) "Clock Input, positive-edge clocks data into shift register.", 6 VDD (power) "Positive Power Supply Input. Specified range of operation 5V +/- 10%.", 7 VREF (in) "DAC Reference Input Pin. Establishes DAC fullscale voltage. Constant input resistance versus code.", 8 RFB (in) "Internal Matching Feedback Resistor. Connect to external op amp output."

## DAC8043AFSZ-REEL7
designator U?
Single 12-Bit Multiplying Digital-to-Analog Converter with Serial Interface, -40 to +85 degC, R-8, Pb-Free, Reel; Generic Part Number: DAC8043A; Manufacturer: Analog Devices; PartNumber: DAC8043AFSZ-REEL7; # DAC Outputs: 1; Max V+: 5.5V; Op Pwr Diss: 50µW; Resolution (Bits): 12; Settling Time: 250ns; Single Supply: Yes; DatasheetVersion: Rev.B; PackageVersion: 060506-A; PackageReference: R-8; PackageDescription: 8-Lead Standard Small Outline Package [SOIC_N] Narrow Body; Supplier 1: Digi-Key; Supplier Part Number 1: DAC8043AFSZ-REEL7-ND; Supplier 2: Newark; Supplier Part Number 2: 59K7917; Supplier 3: Mouser; Supplier Part Number 3: 584-DAC8043AFSZR7; Packing: Reel; RoHS: Y; Mounting Technology: Surface Mount; Code_JEDEC: MS-012-AA; Code_IPC: SOIC127P600-8; ComponentLink1Description: Manufacturer URL; ComponentLink1URL: http://www.analog.com/en/index.html; ComponentLink2Description: Datasheet; ComponentLink2URL: http://www.analog.com/static/imported-files/data_sheets/DAC8043A.pdf; ComponentLink3Description: Package Specification; ComponentLink3URL: http://www.analog.com/static/imported-files/packages/PKG_PDF/SOIC_Narrow%20(R)/R_8.pdf; ComponentLink4Description: Product URL; ComponentLink4URL: http://www.analog.com/en/digital-to-analog-converters/da-converters/dac8043a/products/product.html
footprint R-8_N (SOIC, 8-Leads, Body 4.9x3.9mm, Pitch 1.27mm, IPC Medium Density)
footprint R-8_L (SOIC, 8-Leads, Body 4.9x3.9mm, Pitch 1.27mm, IPC High Density)
footprint R-8_M (SOIC, 8-Leads, Body 4.9x3.9mm, Pitch 1.27mm, IPC Low Density)
pins: 1 IOUT (out) "DAC Current Output, full-scale output 1 LSB less than reference input voltage -VREF.", 2 GND (power) "Analog and Digital Ground.", 3 ~{LD} (in) "Load Strobe, Level-Sensitive Digital Input.Transfers shift-register data to DAC register while active low. See truth table for operation.", 4 SRI (in) "12-Bit Serial Register Input, data loads directly into the shift register MSB first. Extra leading bits are ignored.", 5 CLK (in) "Clock Input, positive-edge clocks data into shift register.", 6 VDD (power) "Positive Power Supply Input. Specified range of operation 5V +/- 10%.", 7 VREF (in) "DAC Reference Input Pin. Establishes DAC fullscale voltage. Constant input resistance versus code.", 8 RFB (in) "Internal Matching Feedback Resistor. Connect to external op amp output."

## DAC8221AW/883C
designator U?
Dual 12-Bit CMOS Buffered Multiplying Digital-to-Analog Converter, -55 to +125 degC, Q-24-1, Tube; Generic Part Number: DAC8221; Manufacturer: Analog Devices; PartNumber: DAC8221AW/883C; # DAC Outputs: 2; Max V+: 15.75V; Op Pwr Diss: 5mW; Resolution (Bits): 12; Settling Time: 450ns; Single Supply: Yes; DatasheetVersion: Rev.B; PackageVersion: 100808-A; PackageReference: Q-24-1; PackageDescription: 24-Lead Ceramic Dual In-Line Package [CERDIP]; Supplier 1: Mouser; Supplier Part Number 1: 584-DAC8221AW883C; Packing: Tube; RoHS: N; Mounting Technology: Through Hole; ComponentLink1Description: Manufacturer URL; ComponentLink1URL: http://www.analog.com/en/index.html; ComponentLink2Description: Datasheet; ComponentLink2URL: http://www.analog.com/static/imported-files/data_sheets/DAC8221.pdf; ComponentLink3Description: Package Specification; ComponentLink3URL: http://www.analog.com/static/imported-files/packages/PKG_PDF/CERDIP(Q)/Q_24_1.pdf; ComponentLink4Description: Product URL; ComponentLink4URL: http://www.analog.com/en/digital-to-analog-converters/da-converters/dac8221/products/product.html
footprint Q-24-1 (DIP, 24-Leads, Row Spacing 7.62mm, Pitch 2.54mm, Body 31.9x6.7mm)
pins: 1 AGND (power), 2 IOUT A (out), 3 RFB A (in), 4 VREF A (in), 5 DGND (power), 6 DB11(MSB)  (in), 7 DB10 (in), 8 DB9 (in), 9 DB8 (in), 10 DB7 (in), 11 DB6 (in), 12 DB5 (in), 13 DB4 (in), 14 DB3 (in), 15 DB2 (in), 16 DB1 (in), 17 DB0(LSB) (in), 18 ~{DAC A}/DAC B (in), 19 ~{CS} (in), 20 ~{WR} (in), 21 VDD (power), 22 VREF B (in), 23 RFB B (in), 24 IOUT B (out)

## DAC8221FP
designator U?
Dual 12-Bit CMOS Buffered Multiplying Digital-to-Analog Converter, -40 to +85 degC, N-24-1, Tube; Generic Part Number: DAC8221; Manufacturer: Analog Devices; PartNumber: DAC8221FP; # DAC Outputs: 2; Max V+: 15.75V; Op Pwr Diss: 5mW; Resolution (Bits): 12; Settling Time: 450ns; Single Supply: Yes; DatasheetVersion: Rev.B; PackageVersion: 071006-A; PackageReference: N-24-1; PackageDescription: 24-Lead Plastic Dual In-Line Package [PDIP] Narrow Body; Supplier 1: Digi-Key; Supplier Part Number 1: DAC8221FP-ND; Supplier 2: Mouser; Supplier Part Number 2: 584-DAC8221FP; Packing: Tube; RoHS: N; Mounting Technology: Through Hole; Code_JEDEC: MS-001; ComponentLink1Description: Manufacturer URL; ComponentLink1URL: http://www.analog.com/en/index.html; ComponentLink2Description: Datasheet; ComponentLink2URL: http://www.analog.com/static/imported-files/data_sheets/DAC8221.pdf; ComponentLink3Description: Package Specification; ComponentLink3URL: http://www.analog.com/static/imported-files/packages/50726455539629N_24_1.pdf; ComponentLink4Description: Product URL; ComponentLink4URL: http://www.analog.com/en/digital-to-analog-converters/da-converters/dac8221/products/product.html
footprint N-24-1 (DIP, 24-Leads, Row Spacing 7.62mm, Pitch 2.54mm, Body 31.9x6.6mm)
pins: 1 AGND (power), 2 IOUT A (out), 3 RFB A (in), 4 VREF A (in), 5 DGND (power), 6 DB11 (MSB) (in), 7 DB10 (in), 8 DB9 (in), 9 DB8 (in), 10 DB7 (in), 11 DB6 (in), 12 DB5 (in), 13 DB4 (in), 14 DB3 (in), 15 DB2 (in), 16 DB1 (in), 17 DB0 (LSB) (in), 18 ~{DAC} ~{A}/DAC B (in), 19 ~{CS} (in), 20 ~{WR} (in), 21 VDD (power), 22 VREF B (in), 23 RFB B (in), 24 IOUT B (out)

## DAC8221FPZ
designator U?
Dual 12-Bit CMOS Buffered Multiplying Digital-to-Analog Converter, -40 to +85 degC, N-24-1, Pb-Free, Tube; Generic Part Number: DAC8221; Manufacturer: Analog Devices; PartNumber: DAC8221FPZ; # DAC Outputs: 2; Max V+: 15.75V; Op Pwr Diss: 5mW; Resolution (Bits): 12; Settling Time: 450ns; Single Supply: Yes; DatasheetVersion: Rev.B; PackageVersion: 071006-A; PackageReference: N-24-1; PackageDescription: 24-Lead Plastic Dual In-Line Package [PDIP] Narrow Body; Supplier 1: Digi-Key; Supplier Part Number 1: DAC8221FPZ-ND; Supplier 2: Mouser; Supplier Part Number 2: 584-DAC8221FPZ; Packing: Tube; RoHS: Y; Mounting Technology: Through Hole; Code_JEDEC: MS-001; ComponentLink1Description: Manufacturer URL; ComponentLink1URL: http://www.analog.com/en/index.html; ComponentLink2Description: Datasheet; ComponentLink2URL: http://www.analog.com/static/imported-files/data_sheets/DAC8221.pdf; ComponentLink3Description: Package Specification; ComponentLink3URL: http://www.analog.com/static/imported-files/packages/50726455539629N_24_1.pdf; ComponentLink4Description: Product URL; ComponentLink4URL: http://www.analog.com/en/digital-to-analog-converters/da-converters/dac8221/products/product.html
footprint N-24-1 (DIP, 24-Leads, Row Spacing 7.62mm, Pitch 2.54mm, Body 31.9x6.6mm)
pins: 1 AGND (power), 2 IOUT A (out), 3 RFB A (in), 4 VREF A (in), 5 DGND (power), 6 DB11 (MSB) (in), 7 DB10 (in), 8 DB9 (in), 9 DB8 (in), 10 DB7 (in), 11 DB6 (in), 12 DB5 (in), 13 DB4 (in), 14 DB3 (in), 15 DB2 (in), 16 DB1 (in), 17 DB0 (LSB) (in), 18 ~{DAC} ~{A}/DAC B (in), 19 ~{CS} (in), 20 ~{WR} (in), 21 VDD (power), 22 VREF B (in), 23 RFB B (in), 24 IOUT B (out)

## DAC8221FSZ
designator U?
Dual 12-Bit CMOS Buffered Multiplying Digital-to-Analog Converter, -40 to +85 degC, RW-24, Pb-Free, Tube; Generic Part Number: DAC8221; Manufacturer: Analog Devices; PartNumber: DAC8221FSZ; # DAC Outputs: 2; Max V+: 15.75V; Op Pwr Diss: 5mW; Resolution (Bits): 12; Settling Time: 450ns; Single Supply: Yes; DatasheetVersion: Rev.B; PackageVersion: 060706-A; PackageReference: RW-24; PackageDescription: 24-Lead Standard Small Outline Package [SOIC_W]; Supplier 1: Digi-Key; Supplier Part Number 1: DAC8221FSZ-ND; Supplier 2: Mouser; Supplier Part Number 2: 584-DAC8221FSZ; Packing: Tube; RoHS: Y; Mounting Technology: Surface Mount; Code_JEDEC: MS-013-AD; ComponentLink1Description: Manufacturer URL; ComponentLink1URL: http://www.analog.com/en/index.html; ComponentLink2Description: Datasheet; ComponentLink2URL: http://www.analog.com/static/imported-files/data_sheets/DAC8221.pdf; ComponentLink3Description: Package Specification; ComponentLink3URL: http://www.analog.com/static/imported-files/packages/33665150946139RW_24.pdf; ComponentLink4Description: Product URL; ComponentLink4URL: http://www.analog.com/en/digital-to-analog-converters/da-converters/dac8221/products/product.html
footprint RW-24_N (SOIC, 24-Leads, Body 15.4x7.5mm, Pitch 1.27mm, IPC Medium Density)
footprint RW-24_L (SOIC, 24-Leads, Body 15.4x7.5mm, Pitch 1.27mm, IPC High Density)
footprint RW-24_M (SOIC, 24-Leads, Body 15.4x7.5mm, Pitch 1.27mm, IPC Low Density)
pins: 1 AGND (power), 2 IOUT A (out), 3 RFB A (in), 4 VREF A (in), 5 DGND (power), 6 DB11(MSB) (in), 7 DB10 (in), 8 DB9 (in), 9 DB8 (in), 10 DB7 (in), 11 DB6 (in), 12 DB5 (in), 13 DB4 (in), 14 DB3 (in), 15 DB2 (in), 16 DB1 (in), 17 DB0(LSB) (in), 18 ~{DAC A}/DAC B (in), 19 ~{CS} (in), 20 ~{WR} (in), 21 VDD (power), 22 VREF B (in), 23 RFB B (in), 24 IOUT B (out)